# EAGLE library part LM25011 (library robotter_ic)
42V 2A step down switching regulator http://www.ti.com/product/lm25011
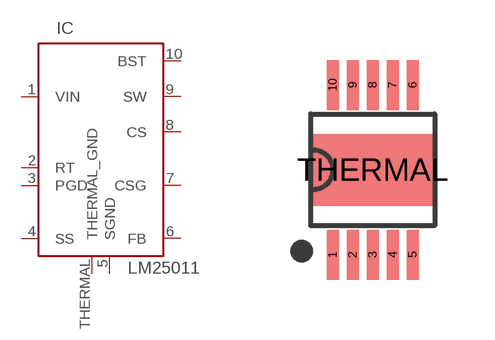
[diagram p17: symbol with the pads of MSOP10_THERMAL; footprint MSOP10_THERMAL]

Designator prefix IC

## LM25011MY (MOUSER: 926-LM25011MY/NOPB; RS: 761-4883; VALUE: LM25011MY)  [MSOP10_THERMAL]
1  VIN  in
2  RT  in
3  PGD  in
4  SS  pwr
5  SGND  pwr
6  FB  in
7  CSG  in
8  CS  out
9  SW  out
10  BST  in
THERMAL  THERMAL_GND  pwr

## Footprint MSOP10_THERMAL (pad centres in mm)
smd 0.3 x 1.25: 1 -1,-2.127; 2 -0.5,-2.127; 3 0,-2.127; 4 0.5,-2.127; 5 1,-2.127; 6 1,2.127; 7 0.5,2.127; 8 0,2.127; 9 -0.5,2.127; 10 -1,2.127
smd 3 x 1.8: THERMAL 0,0